# EAGLE library part PIC18F2*K20-E/ (library MCU)
PIC XLP™ 18K Microcontroller IC 8-Bit 48MHz 28-QFN (6x6) Datasheet <http://ww1.microchip.com/downloads/en/DeviceDoc/40001303H.pdf>
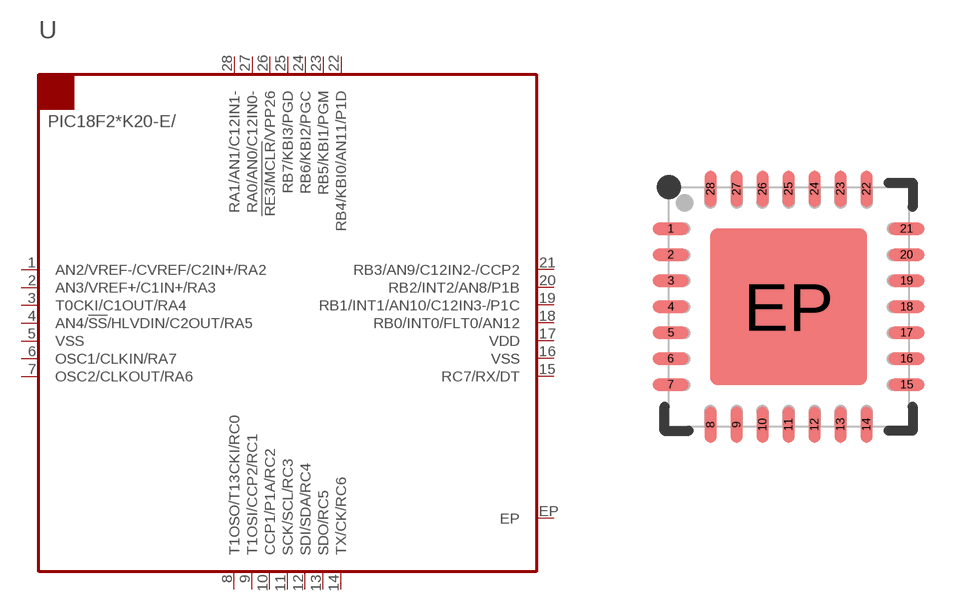
[diagram p14: symbol with the pads of QFN-28; footprint QFN-28]

Designator prefix U

## PIC18F23K20-E/ML (MEM: 8K), PIC18F24K20-E/ML (MEM: 16K), PIC18F25K20-E/ML (MEM: 32K), PIC18F26K20-E/ML (MEM: 64K; PARTNO: 01-100531-00)  [QFN-28]
1  AN2/VREF-/CVREF/C2IN+/RA2
2  AN3/VREF+/C1IN+/RA3
3  T0CKI/C1OUT/RA4
4  AN4/!SS!/HLVDIN/C2OUT/RA5
5  VSS  pwr
6  OSC1/CLKIN/RA7
7  OSC2/CLKOUT/RA6
8  T1OSO/T13CKI/RC0
9  T1OSI/CCP2/RC1
10  CCP1/P1A/RC2
11  SCK/SCL/RC3
12  SDI/SDA/RC4
13  SDO/RC5
14  TX/CK/RC6
15  RC7/RX/DT
16  VSS  pwr
17  VDD  pwr
18  RB0/INT0/FLT0/AN12
19  RB1/INT1/AN10/C12IN3-/P1C
20  RB2/INT2/AN8/P1B
21  RB3/AN9/C12IN2-/CCP2
22  RB4/KBI0/AN11/P1D
23  RB5/KBI1/PGM
24  RB6/KBI2/PGC
25  RB7/KBI3/PGD
26  !RE3/MCLR!/VPP26
27  RA0/AN0/C12IN0-
28  RA1/AN1/C12IN1-
EP  EP  pwr

## Footprint QFN-28 (pad centres in mm)
QFN, 28-Leads, Body 6x6mm, Pitch 0.65mm, Thermal Pad 3.7x3.7mm, IPC Medium Density
smd 0.9 x 0.3: 1 -2.95,1.95; 2 -2.95,1.3; 3 -2.95,0.65; 4 -2.95,0; 5 -2.95,-0.65; 6 -2.95,-1.3; 7 -2.95,-1.95; 15 2.95,-1.95; 16 2.95,-1.3; 17 2.95,-0.65; 18 2.95,0; 19 2.95,0.65; 20 2.95,1.3; 21 2.95,1.95
smd 0.3 x 0.9: 8 -1.95,-2.95; 9 -1.3,-2.95; 10 -0.65,-2.95; 11 0,-2.95; 12 0.65,-2.95; 13 1.3,-2.95; 14 1.95,-2.95; 22 1.95,2.95; 23 1.3,2.95; 24 0.65,2.95; 25 0,2.95; 26 -0.65,2.95; 27 -1.3,2.95; 28 -1.95,2.95
smd 3.93 x 3.93: EP 0,0